# Altium footprint library VEJ222M1ETR-1616.PcbLib: 1 footprints
Each footprint in its own frame and in the unit in brackets; x right, y up, seen from the top. Pads: shape width x height; smd on the part's side, far side on the other; paste and mask are expansions set on the pad; w line width, h text height; cw(c..) or ccw(c..) is an arc to the next point about the centre after c.
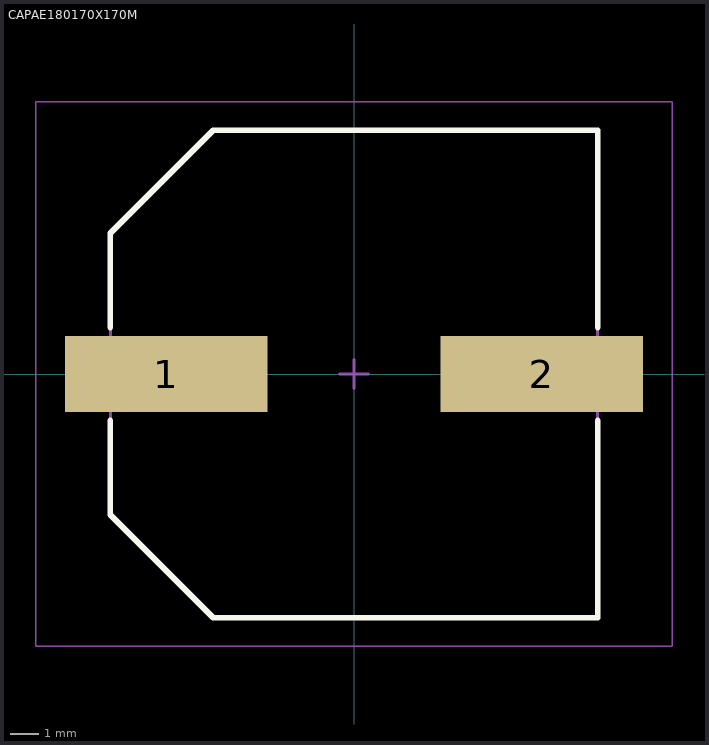
[diagram p0: the footprint, top view; thin cyan lines are the x and y axes]

## CAPAE180170X170M [mm] "Aluminum Electrolytic Capacitor, Body 17.00x17.00x17.00mm, IPC Low Density"
height 17
pads (2):
  rect 7.05x2.65 smd: 1(-6.55,0) 2(6.55,0)
Top Overlay:
  lines w0.2: -8.5,-1.625 -8.5,-4.912 -4.912,-8.5 8.5,-8.5 8.5,-1.625 ; -8.5,1.625 -8.5,4.913 -4.912,8.5 8.5,8.5 8.5,1.625
Mechanical 13:
  lines w0.1: -8.5,-4.912 -4.912,-8.5 8.5,-8.5 8.5,8.5 -4.912,8.5 -8.5,4.913 -8.5,-4.912
Mechanical 15:
  lines w0.05: -11.1,-9.5 -11.1,9.5 11.1,9.5 11.1,-9.5 -11.1,-9.5
  lines w0.1: -0.5,0 0.5,0 ; 0,-0.5 0,0.5
3D body: height 5.67, standoff 0, extent -8.5,-8.5 8.5,8.5
3D body: height 17, standoff 0, extent -8.25,-8.25 8.25,8.25